# EAGLE library part LOM100A-PM (library LOM100A-PM)
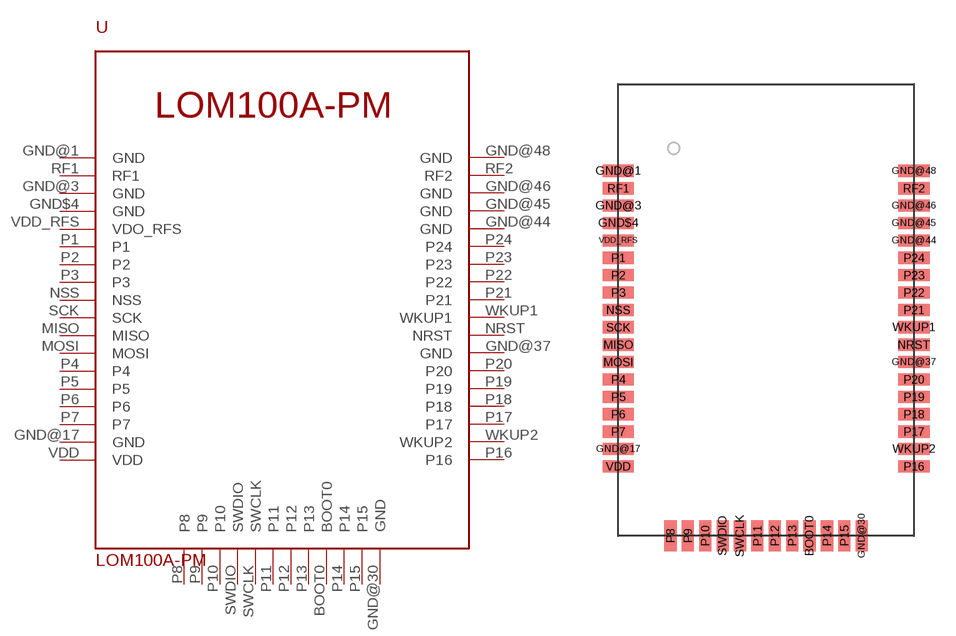
[diagram p0: symbol with the pads of LOM100A-PM; footprint LOM100A-PM]

Designator prefix -

## LOM100A-PM  [LOM100A-PM]
BOOT0  BOOT0  pas
GND$4  GND  pas
GND@1  GND  pas
GND@3  GND  pas
GND@17  GND  pas
GND@30  GND  pas
GND@37  GND  pas
GND@44  GND  pas
GND@45  GND  pas
GND@46  GND  pas
GND@48  GND  pas
MISO  MISO  pas
MOSI  MOSI  pas
NRST  NRST  pas
NSS  NSS  pas
P1  P1  pas
P2  P2  pas
P3  P3  pas
P4  P4  pas
P5  P5  pas
P6  P6  pas
P7  P7  pas
P8  P8  pas
P9  P9  pas
P10  P10  pas
P11  P11  pas
P12  P12  pas
P13  P13  pas
P14  P14  pas
P15  P15  pas
P16  P16  pas
P17  P17  pas
P18  P18  pas
P19  P19  pas
P20  P20  pas
P21  P21  pas
P22  P22  pas
P23  P23  pas
P24  P24  pas
RF1  RF1  pas
RF2  RF2  pas
SCK  SCK  pas
SWCLK  SWCLK  pas
SWDIO  SWDIO  pas
VDD  VDD  pas
VDD_RFS  VDO_RFS  pas
WKUP1  WKUP1  pas
WKUP2  WKUP2  pas

## Footprint LOM100A-PM (pad centres in mm)
smd 0.7 x 1.8: BOOT0 2.5,-12.5; GND@30 5.5,-12.5; P8 -5.5,-12.5; P9 -4.5,-12.5; P10 -3.5,-12.5; P11 -0.5,-12.5; P12 0.5,-12.5; P13 1.5,-12.5; P14 3.5,-12.5; P15 4.5,-12.5; SWCLK -1.5,-12.5; SWDIO -2.5,-12.5
smd 1.8 x 0.7: GND$4 -8.5,5.5; GND@1 -8.5,8.5; GND@3 -8.5,6.5; GND@17 -8.5,-7.5; GND@37 8.5,-2.5; GND@44 8.5,4.5; GND@45 8.5,5.5; GND@46 8.5,6.5; GND@48 8.5,8.5; MISO -8.5,-1.5; MOSI -8.5,-2.5; NRST 8.5,-1.5; NSS -8.5,0.5; P1 -8.5,3.5; P2 -8.5,2.5; P3 -8.5,1.5; P4 -8.5,-3.5; P5 -8.5,-4.5; P6 -8.5,-5.5; P7 -8.5,-6.5; P16 8.5,-8.5; P17 8.5,-6.5; P18 8.5,-5.5; P19 8.5,-4.5; P20 8.5,-3.5; P21 8.5,0.5; P22 8.5,1.5; P23 8.5,2.5; P24 8.5,3.5; RF1 -8.5,7.5; RF2 8.5,7.5; SCK -8.5,-0.5; VDD -8.5,-8.5; VDD_RFS -8.5,4.5; WKUP1 8.5,-0.5; WKUP2 8.5,-7.5